# EAGLE library part HDR-100-09 (library con-molex-kk)
HEADER
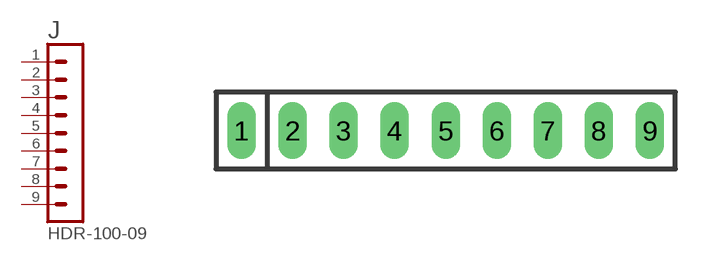
[diagram p152: symbol with the pads of HDR-100-09; footprint HDR-100-09]

Designator prefix J

## HDR-100-09  [HDR-100-09]
1  1  pas
2  2  pas
3  3  pas
4  4  pas
5  5  pas
6  6  pas
7  7  pas
8  8  pas
9  9  pas

## Footprint HDR-100-09 (pad centres in mm)
HEADER - pitch 0.1"
drill 0.914 long: 1 -10.16,0; 2 -7.62,0; 3 -5.08,0; 4 -2.54,0; 5 0,0; 6 2.54,0; 7 5.08,0; 8 7.62,0; 9 10.16,0